# EAGLE library part FTSH-118-01-L-DV (library tuckerLib)
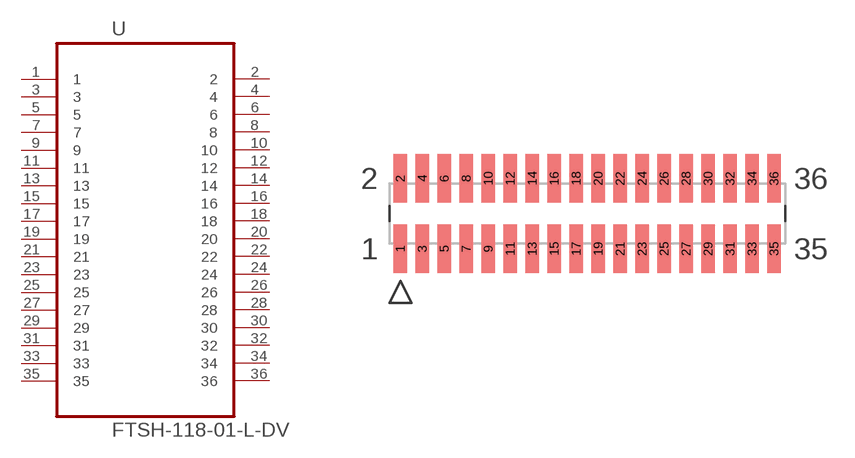
[diagram p1: symbol with the pads of FTSH-118-01-DV; footprint FTSH-118-01-DV]

Designator prefix -

## FTSH-118-01-L-DV  [FTSH-118-01-DV]
1  1  pas
2  2  pas
3  3  pas
4  4  pas
5  5  pas
6  6  pas
7  7  pas
8  8  pas
9  9  pas
10  10  pas
11  11  pas
12  12  pas
13  13  pas
14  14  pas
15  15  pas
16  16  pas
17  17  pas
18  18  pas
19  19  pas
20  20  pas
21  21  pas
22  22  pas
23  23  pas
24  24  pas
25  25  pas
26  26  pas
27  27  pas
28  28  pas
29  29  pas
30  30  pas
31  31  pas
32  32  pas
33  33  pas
34  34  pas
35  35  pas
36  36  pas

## Footprint FTSH-118-01-DV (pad centres in mm)
smd 0.762 x 2.794: 1 -10.795,-2.032; 2 -10.795,2.032; 3 -9.525,-2.032; 4 -9.525,2.032; 5 -8.255,-2.032; 6 -8.255,2.032; 7 -6.985,-2.032; 8 -6.985,2.032; 9 -5.715,-2.032; 10 -5.715,2.032; 11 -4.445,-2.032; 12 -4.445,2.032; 13 -3.175,-2.032; 14 -3.175,2.032; 15 -1.905,-2.032; 16 -1.905,2.032; 17 -0.635,-2.032; 18 -0.635,2.032; 19 0.635,-2.032; 20 0.635,2.032; 21 1.905,-2.032; 22 1.905,2.032; 23 3.175,-2.032; 24 3.175,2.032; 25 4.445,-2.032; 26 4.445,2.032; 27 5.715,-2.032; 28 5.715,2.032; 29 6.985,-2.032; 30 6.985,2.032; 31 8.255,-2.032; 32 8.255,2.032; 33 9.525,-2.032; 34 9.525,2.032; 35 10.795,-2.032; 36 10.795,2.032